# EAGLE library part TXB0108 (library toyotune)
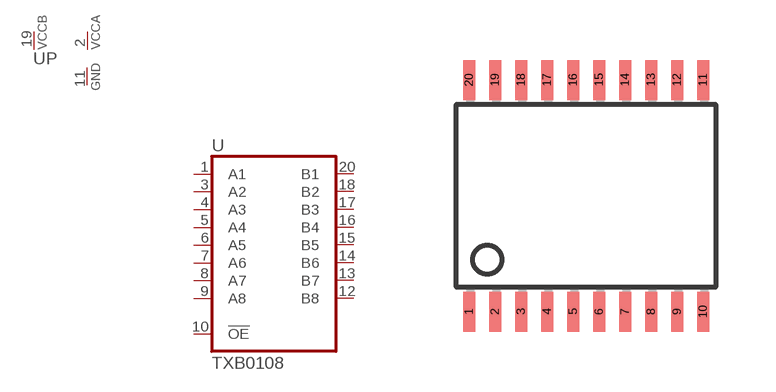
[diagram p12: symbol with the pads of TSSOP20; footprint TSSOP20]

Designator prefix -; gates P=PWRA =TXB0108

## TXB0108PW  [TSSOP20]
1  :A1
2  P:VCCA  pwr
3  :A2
4  :A3
5  :A4
6  :A5
7  :A6
8  :A7
9  :A8
10  :!OE  in
11  P:GND  pwr
12  :B8
13  :B7
14  :B6
15  :B5
16  :B4
17  :B3
18  :B2
19  P:VCCB  pwr
20  :B1

## Footprint TSSOP20 (pad centres in mm)
Thin Shrink Small Outline Plastic 20 MAX3223-MAX3243.pdf
smd 0.3 x 1: 1 -2.95,-2.9; 2 -2.3,-2.9; 3 -1.65,-2.9; 4 -1,-2.9; 5 -0.35,-2.9; 6 0.3,-2.9; 7 0.95,-2.9; 8 1.6,-2.9; 9 2.25,-2.9; 10 2.9,-2.9; 11 2.9,2.9; 12 2.25,2.9; 13 1.6,2.9; 14 0.95,2.9; 15 0.3,2.9; 16 -0.35,2.9; 17 -1,2.9; 18 -1.65,2.9; 19 -2.3,2.9; 20 -2.95,2.9